# EAGLE library part BMP280 (library custom-ds)
Bosch BMP280 temperature and barometric pressure sensor.
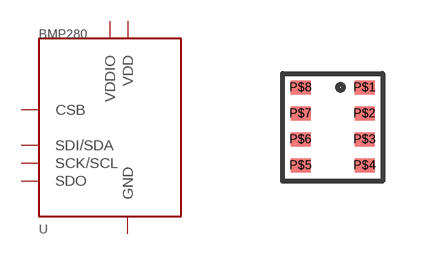
[diagram p11: symbol with the pads of BMP280; footprint BMP280]

Designator prefix U

## BMP280  [BMP280]
P$1  GND
P$2  CSB
P$3  SDI/SDA
P$4  SCK/SCL
P$5  SDO
P$6  VDDIO
P$7  GND
P$8  VDD

## Footprint BMP280 (pad centres in mm)
smd 0.5 x 0.35: P$1 0.8,0; P$2 0.8,-0.65; P$3 0.8,-1.3; P$4 0.8,-1.95; P$5 -0.8,-1.95; P$6 -0.8,-1.3; P$7 -0.8,-0.65; P$8 -0.8,0